# Altium schematic symbol library HCPL-0601-500E.SchLib: 1 symbol
Pins are listed as number, name and electrical type; pins without a type are passive.

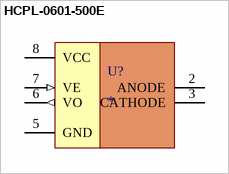
[diagram p0: symbol HCPL-0601-500E]

## HCPL-0601-500E
designator U?
AVAGO TECHNOLOGIES - HCPL-0601-500E - OPTOCOUPLER, SMD, 10MBD; farnell: 8549788
footprint HCPL-0601-500 (AVAGO TECHNOLOGIES - HCPL-0601-500E - OPTOCOUPLER, SMD, 10MBD)
pins: 2 ANODE, 3 CATHODE, 5 GND (power), 6 VO (out), 7 VE (in), 8 VCC (power)